# EAGLE library part SERIAL_FT230XQ (library daGloane)
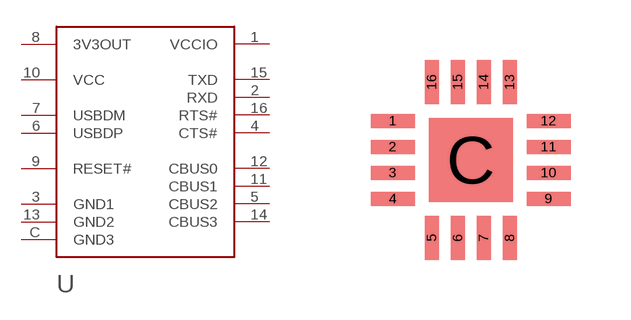
[diagram p3: symbol with the pads of SERIAL_QFN4X4-16; footprint SERIAL_QFN4X4-16]

Designator prefix -

## SERIAL_FT230XQ  [SERIAL_QFN4X4-16]
1  VCCIO  in
2  RXD  in
3  GND1  pwr
4  CTS#
5  CBUS2
6  USBDP
7  USBDM
8  3V3OUT  out
9  RESET#  in
10  VCC  pwr
11  CBUS1
12  CBUS0
13  GND2  pwr
14  CBUS3
15  TXD  out
16  RTS#
C  GND3  pwr

## Footprint SERIAL_QFN4X4-16 (pad centres in mm)
smd 1.1 x 0.35: 1 -1.95,0.975; 2 -1.95,0.325; 3 -1.95,-0.325; 4 -1.95,-0.975; 9 1.95,-0.975; 10 1.95,-0.325; 11 1.95,0.325; 12 1.95,0.975
smd 0.35 x 1.1: 5 -0.975,-1.95; 6 -0.325,-1.95; 7 0.325,-1.95; 8 0.975,-1.95; 13 0.975,1.95; 14 0.325,1.95; 15 -0.325,1.95; 16 -0.975,1.95
smd 2.1 x 2.1: C 0,0